# Altium footprint library DClassAmp_Footprints.PcbLib: 20 footprints (part 2 of 2)
Each footprint in its own frame and in the unit in brackets; x right, y up, seen from the top. Pads: shape width x height; smd on the part's side, far side on the other; paste and mask are expansions set on the pad; w line width, h text height; cw(c..) or ccw(c..) is an arc to the next point about the centre after c.
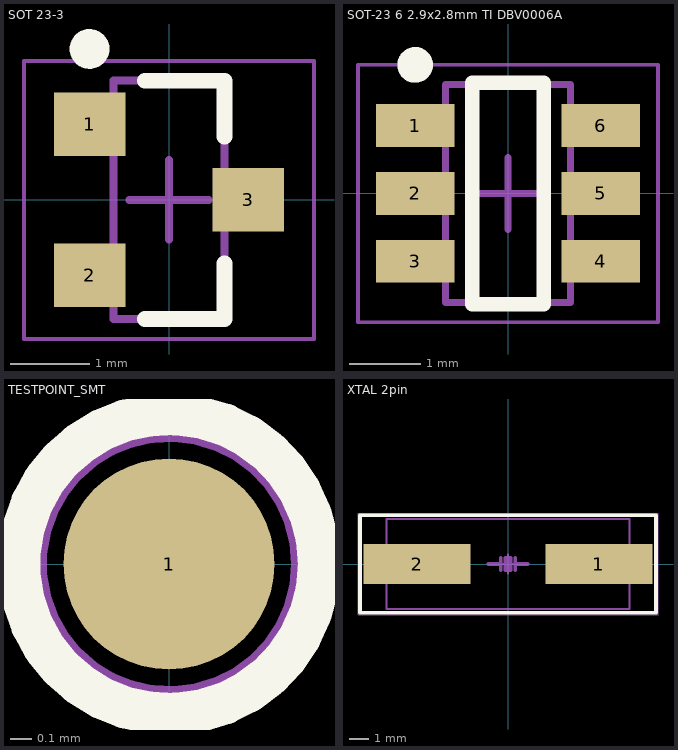
[diagram p1: the footprints below, top view; thin cyan lines are the x and y axes]

## SOT 23-3 [mm]
height 1.15
pads (3):
  rect 0.9x0.8 smd: 1(-1,0.95) 2(-1,-0.95) 3(1,0)
Top Overlay:
  circle w0.25: c-1,1.9 r0.125
  lines w0.2: -0.3,-1.5 0.7,-1.5 0.7,-0.8 ; -0.3,1.5 0.7,1.5 0.7,0.8
Mechanical 13:
  lines w0.1: -0.7,-1.5 0.7,-1.5 0.7,1.5 -0.7,1.5 -0.7,-1.5
Mechanical 15:
  lines w0.05: -1.825,-1.75 1.825,-1.75 1.825,1.75 -1.825,1.75 -1.825,-1.75
  lines w0.1: -0.5,0 0.5,0 ; 0,-0.5 0,0.5
3D body "SOT 23-3 .step": height 1.15, standoff 0, extent -1.2,-1.5 1.2,1.5

## SOT-23 6 2.9x2.8mm TI DBV0006A [mm] "SOT23, 6-Leads, Body 2.90x2.80mm, Pitch 0.95mm, IPC Medium Density"
height 1.45
pads (6):
  rect 1.1x0.6 smd: 1(-1.3,0.95) 2(-1.3,0) 3(-1.3,-0.95) 4(1.3,-0.95) 5(1.3,0) 6(1.3,0.95)
Top Overlay:
  circle w0.25: c-1.3,1.8 r0.125
  lines w0.2: -0.5,-1.55 0.5,-1.55 0.5,1.55 -0.5,1.55 -0.5,-1.55
Mechanical 13:
  lines w0.1: -0.875,-1.525 -0.875,1.525 0.875,1.525 0.875,-1.525 -0.875,-1.525
Mechanical 15:
  lines w0.05: -2.1,-1.8 -2.1,1.8 2.1,1.8 2.1,-1.8 -2.1,-1.8
  lines w0.1: -0.5,0 0.5,0 ; 0,-0.5 0,0.5
3D body "SOT-23 6 2.9x2.8mm TI DBV0006A.step": height 1.45, standoff 0, extent -1.5,-1.525 1.5,1.525

## TESTPOINT_SMT [mm] "testpoint smt"
pads (1):
  round 1 smd: 1(0,0)
Top Overlay:
  circle w0.2: c0,0 r0.71
Mechanical 13:
  circle w0.05: c0,0 r0.604

## XTAL 2pin [mm]
pads (2):
  rect 5.6x2.1 smd: 1(4.75,0) 2(-4.75,0)
Top Overlay:
  lines w0.2: -7.75,-2.549 -7.75,2.549 7.75,2.549 7.75,-2.549 -7.75,-2.549
Mechanical 1:
  lines w0.2: -1.016,0 -0.381,0 ; -0.381,-0.318 -0.381,0.318 ; 0.381,-0.318 0.381,0.318 ; 0.381,0 1.016,0 ; -0.127,-0.318 0.127,-0.318 0.127,0.318 -0.127,0.318 -0.127,-0.318
Mechanical 13:
  lines w0.1: -6.35,-2.349 -6.35,2.349 6.35,2.349 6.35,-2.349 -6.35,-2.349
Mechanical 15:
  lines w0.05: -7.85,-2.649 -7.85,2.649 7.85,2.649 7.85,-2.649 -7.85,-2.649
  lines w0.1: -0.5,0 0.5,0 ; 0,-0.5 0,0.5
3D body "ABLS.STEP": height 4.18, standoff 0.01, extent -6.35,-2.349 6.35,2.349